# Altium schematic symbol library BraaiBuddyPCB_Schematic_Library.SCHLIB: 34 symbols
Pins are listed as number, name and electrical type; pins without a type are passive.

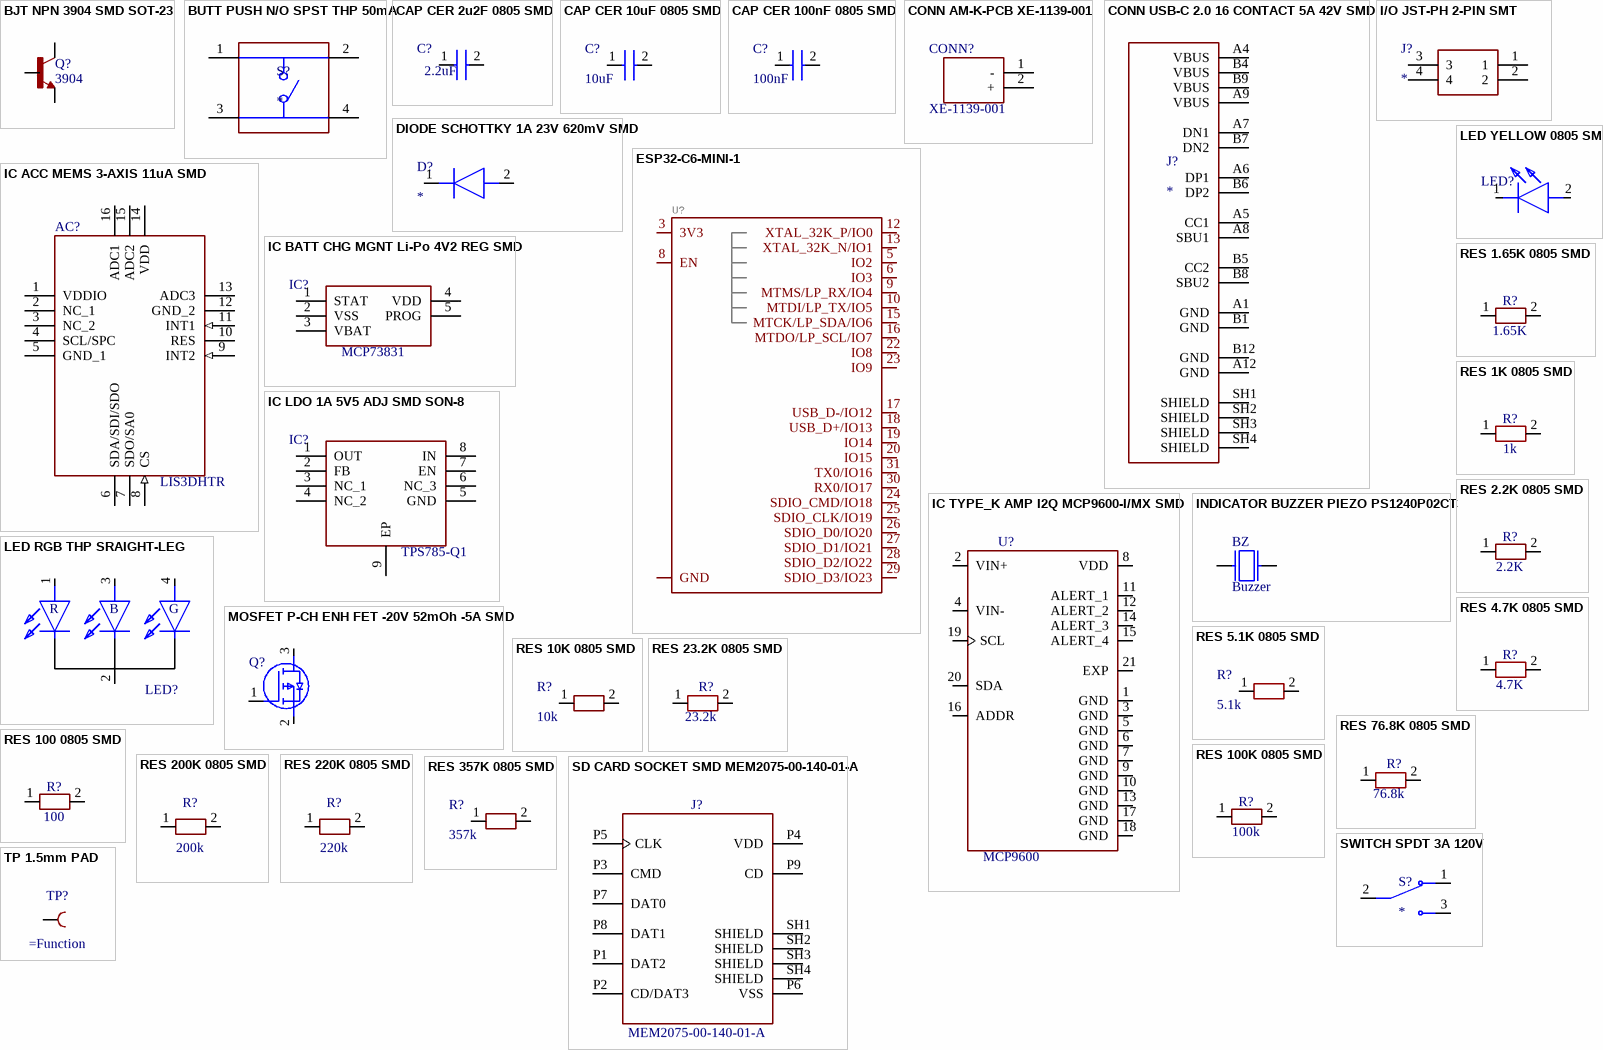
[diagram p0: symbols BJT NPN 3904 SMD SOT-23 to TP 1.5mm PAD]

## BJT NPN 3904 SMD SOT-23
designator Q?, comment 3904
NPN SMALL SIGNAL SURFACE MOUNT TRANSISTOR; Manufacturer_Part_Number: MMBT3904
footprint SOT95P230X110-3N (Footprint not found)
pins: B, C, E

## BUTT PUSH N/O SPST THP 50mA
designator S?
6 x 6 mm, 4.3 mm Actuator Height, 100 gf, Black, Long Crimped, Through Hole, SPST, Tactile Switch; Manufacturer_Part_Number: TS02-66-43-BK-100-LCR-D
footprint SW_TS02-66-43-BK-100-LCR-D
pins: 1, 2, 3, 4

## CAP CER 2u2F 0805 SMD
designator C?, comment 2.2uF
Capacitor; Manufacturer_Part_Number: LMK212BJ225MG-T
footprint CAPC2012X135N
pins: 1, 2

## CAP CER 10uF 0805 SMD
designator C?, comment 10uF
Capacitor; Manufacturer_Part_Number: CL21A106KOQNNNE; ComponentLink1Description: Datasheet; ComponentLink1URL: https://www.mouser.co.za/datasheet/2/585/MLCC-1837944.pdf
footprint CAPC2012X94N
pins: 1, 2

## CAP CER 100nF 0805 SMD
designator C?, comment 100nF
Capacitor; Manufacturer_Part_Number: 08055C104KAZ2A; ComponentLink1Description: Datasheet; ComponentLink1URL: http://datasheets.avx.com/X7RDielectric.pdf
footprint CAPC2012X94N
pins: 1, 2

## CONN AM-K-PCB XE-1139-001
designator CONN?, comment XE-1139-001
Thermocouple Type-K Connector; Manufacturer_Part_Number: XE-1139-001; Supplier: DigiKey; ComponentLink1Description: Datasheet; ComponentLink1URL: https://mm.digikey.com/Volume0/opasdata/d220001/medias/docus/6465/XE-1139-001.pdf
footprint AM-K PCB XE-1139-001
pins: 1 -, 2 +

## CONN USB-C 2.0 16 CONTACT 5A 42V SMD
designator J?
USB Connectors Type C,2.0, Horizontal, Gold plated 3u, Mid Surface Mount 1.0mm, 16 pin, T&R; Manufacturer_Part_Number: UJ20-C-H-G-SMT-TR; ComponentLink1Description: Datasheet; ComponentLink1URL: https://www.sameskydevices.com/product/resource/uj20-c-h-g-smt-tr.pdf
footprint CUI_UJ20-C-H-G-SMT-TR
pins: A1 GND (power), A4 VBUS, A5 CC1, A6 DP1, A7 DN1, A8 SBU1, A9 VBUS, A12 GND (power), B1 GND (power), B4 VBUS, B5 CC2, B6 DP2, B7 DN2, B8 SBU2, B9 VBUS, B12 GND (power), SH1 SHIELD, SH2 SHIELD, SH3 SHIELD, SH4 SHIELD

## DIODE SCHOTTKY 1A 23V 620mV SMD
designator D?
Diode; Manufacturer_Part_Number: BAT20JFILM; ComponentLink1Description: Datasheet; ComponentLink1URL: http://www.st.com/web/en/resource/technical/document/datasheet/CD00012201.pdf
footprint SOD2512X113N
pins: 1 K, 2 A

## ESP32-C6-MINI-1
designator U?
Manufacturer_Part_Number: ESP32-C6-MINI-1-H8; ComponentLink1Description: Datasheet; ComponentLink1URL: https://www.mouser.com/catalog/specsheets/Espressif_Systems_esp32-c6-mini-1_mini-1u_datasheet_en.pdf?_gl=1*7278yr*_gcl_aw*R0NMLjE3Mzk0MzM2MTQuQ2p3S0NBaUFxckc5QmhBVkVpd0FhUHU1emlsTWRuRXdaa2Fsd2VWNEN5MzNjMjVBX1BkRDhocTJZbnRtek0tckw4Q0pVVXJTcmNRbGdob0NCcXNRQXZEX0J3RQ..*_gcl_au*ODgyNzE3NTQxLjE3NDEwOTkzMzU.*_ga*MjEzMDEzNzc2Mi4xNzMzMzA0NDkw*_ga_15W4STQT4T*MTc0MTUxNTkxNS42MC4xLjE3NDE1MTgwNDEuMzcuMC4w
footprint ESP32C6MINI1H8
pins: 1 GND, 3 3V3, 5 IO2, 6 IO3, 8 EN, 9 MTMS/LP_RX/IO4, 10 MTDI/LP_TX/IO5, 12 XTAL_32K_P/IO0, 13 XTAL_32K_N/IO1, 15 MTCK/LP_SDA/IO6, 16 MTDO/LP_SCL/IO7, 17 USB_D-/IO12, 18 USB_D+/IO13, 19 IO14, 20 IO15, 22 IO8, 23 IO9, 24 SDIO_CMD/IO18, 25 SDIO_CLK/IO19, 26 SDIO_D0/IO20, 27 SDIO_D1/IO21, 28 SDIO_D2/IO22, 29 SDIO_D3/IO23, 30 RX0/IO17, 31 TX0/IO16

## I/O JST-PH 2-PIN SMT
designator J?
Connector; Manufacturer_Part_Number: 1769
footprint 1769
pins: 1, 2, 3, 4

## IC ACC MEMS 3-AXIS 11uA SMD
designator AC?, comment LIS3DHTR
Accelerometer; Manufacturer_Part_Number: LIS3DHTR; ComponentLink1Description: Datasheet; ComponentLink1URL: https://www.mouser.co.za/datasheet/2/389/lis3dh-1849589.pdf
footprint LIS3DHTR
pins: 1 VDDIO (power), 2 NC_1, 3 NC_2, 4 SCL/SPC, 5 GND_1 (power), 6 SDA/SDI/SDO, 7 SDO/SA0, 8 CS (in), 9 INT2 (in), 10 RES, 11 INT1 (in), 12 GND_2 (power), 13 ADC3, 14 VDD (power), 15 ADC2, 16 ADC1

## IC BATT CHG MGNT Li-Po 4V2 REG SMD
designator IC?, comment MCP73831
Integrated Circuit; Manufacturer_Part_Number: MCP73831T-2ACI/OT; ComponentLink1Description: Datasheet; ComponentLink1URL: http://ww1.microchip.com/downloads/en/DeviceDoc/20001984g.pdf
footprint SOT95P270X145-5N
pins: 1 STAT, 2 VSS, 3 VBAT, 4 VDD, 5 PROG

## IC LDO 1A 5V5 ADJ SMD SON-8
designator IC?, comment TPS785-Q1
LDO Voltage Regulators Automotive 1-A high -accuracy adjustable; Manufacturer_Part_Number: TPS78501QWDRBRQ1; ComponentLink1Description: Datasheet; ComponentLink1URL: https://www.ti.com/lit/gpn/TPS785-Q1
footprint SON65P300X300X100-9N-D
pins: 1 OUT, 2 FB, 3 NC_1, 4 NC_2, 5 GND, 6 NC_3, 7 EN, 8 IN, 9 EP

## IC TYPE_K AMP I2Q MCP9600-I/MX SMD
designator U?, comment MCP9600
MCP9600 Series Thermocouple Electromotive Force to Â±1.5Â°C Converter - VQFN-2; Manufacturer_Part_Number: MCP9600-E/MX; ComponentLink1Description: Datasheet; ComponentLink1URL: https://www.mouser.co.za/datasheet/2/268/MCP960X_L0X_RL0X_Thermocouple_EMF_to_Temperature_C-3443378.pdf
footprint QFN65P500X500X100-21N
pins: 1 GND, 2 VIN+, 3 GND, 4 VIN-, 5 GND, 6 GND, 7 GND, 8 VDD, 9 GND, 10 GND, 11 ALERT_1, 12 ALERT_2, 13 GND, 14 ALERT_3, 15 ALERT_4, 16 ADDR, 17 GND, 18 GND, 19 SCL, 20 SDA, 21 EXP

## INDICATOR BUZZER PIEZO PS1240P02CT3
designator BZ, comment Buzzer
Buzzers Transducer, Externally Driven Piezo 3V 4kHz 60dB @ 3V, 10cm Through Hole PC Pins; Manufacturer_Part_Number: PS1240P02CT3; ComponentLink1Description: Datasheet; ComponentLink1URL: https://product.tdk.com/system/files/dam/doc/product/sw_piezo/sw_piezo/piezo-buzzer/catalog/piezoelectronic_buzzer_ps_en.pdf
footprint 3XDCR_PS1240P02CT3
pins: 1, 2

## LED RGB THP SRAIGHT-LEG
designator LED?  (value not drawn)
RGB LED Dialight 521-8559F; Manufacturer_Part_Number: 521-8559F; ComponentLink1Description: Datasheet; ComponentLink1URL: https://www.mouser.co.za/datasheet/2/109/C18455B-1843429.pdf
footprint LED THP Dialight 521-8559F
pins: 1 K, 2 5, 3 K, 4 K
text: R; B; G

## LED YELLOW 0805 SMD
designator LED?  (value not drawn)
Single Colour LED Yellow 20mA; Manufacturer_Part_Number: LY M676-Q2S1-26-Z; ComponentLink1Description: Datasheet; ComponentLink1URL: https://www.mouser.com/datasheet/2/588/Osram_7222021_LY__M676_EN-2891431.pdf
footprint LYM676Q2S126Z
pins: 1 K, 2 A

## MOSFET P-CH ENH FET -20V 52mOh -5A SMD
designator Q?  (value not drawn)
MOSFET (P-Channel); Manufacturer_Part_Number: DMG2305UX-7; ComponentLink1Description: Datasheet; ComponentLink1URL: https://www.diodes.com/assets/Datasheets/DMG2305UX.pdf
footprint SOT96P240X115-3N
pins: 1 G, 2 S, 3 D

## RES 1.65K 0805 SMD
designator R?, comment 1.65K
Resistor; Manufacturer_Part_Number: CRCW08051K65FKEAHP
footprint RESC2012X60N
pins: 1, 2

## RES 1K 0805 SMD
designator R?, comment 1k
Resistor; Manufacturer_Part_Number: RC0805JR-071KL
footprint RESC2012X60N
pins: 1, 2

## RES 2.2K 0805 SMD
designator R?, comment 2.2K
Resistor; Manufacturer_Part_Number: ERJ-PB6B2201V
footprint RESC2012X70N
pins: 1, 2

## RES 4.7K 0805 SMD
designator R?, comment 4.7K
Resistor; Manufacturer_Part_Number: CRCW08054K70FKEA
footprint RESC2012X50N
pins: 1, 2

## RES 5.1K 0805 SMD
designator R?, comment 5.1k
Resistor; Manufacturer_Part_Number: RC0805JR-075K1L; ComponentLink1Description: Datasheet; ComponentLink1URL: https://industrial.panasonic.com/cdbs/www-data/pdf/RDA0000/AOA0000C84.pdf
footprint RESC2012X60N
pins: 1, 2

## RES 10K 0805 SMD
designator R?, comment 10k
Resistor; Manufacturer_Part_Number: CR0805-FX-1002ELF
footprint RESC2012X60N
pins: 1, 2

## RES 23.2K 0805 SMD
designator R?, comment 23.2k
Resistor; Manufacturer_Part_Number: RC0805FR-0723K2L; ComponentLink1Description: Datasheet; ComponentLink1URL: https://industrial.panasonic.com/cdbs/www-data/pdf/RDA0000/AOA0000C84.pdf
footprint RESC2012X60N
pins: 1, 2

## RES 76.8K 0805 SMD
designator R?, comment 76.8k
Resistor; Manufacturer_Part_Number: RC0805FR-0776K8L; ComponentLink1Description: Datasheet; ComponentLink1URL: https://industrial.panasonic.com/cdbs/www-data/pdf/RDA0000/AOA0000C84.pdf
footprint RESC2012X60N
pins: 1, 2

## RES 100 0805 SMD
designator R?, comment 100
Resistor; Manufacturer_Part_Number: 1623096-1
footprint RESC2012X60N
pins: 1, 2

## RES 100K 0805 SMD
designator R?, comment 100k
Resistor; Manufacturer_Part_Number: CRCW0805100KJNECC
footprint RESC2012X50N
pins: 1, 2

## RES 200K 0805 SMD
designator R?, comment 200k
Resistor; Manufacturer_Part_Number: SG73P2ATTD2003F
footprint RESC2012X60N
pins: 1, 2

## RES 220K 0805 SMD
designator R?, comment 220k
Resistor; Manufacturer_Part_Number: CR0805-FX-2203ELF
footprint RESC2012X60N
pins: 1, 2

## RES 357K 0805 SMD
designator R?, comment 357k
Resistor; Manufacturer_Part_Number: ERJ-6ENF3573V; ComponentLink1Description: Datasheet; ComponentLink1URL: https://industrial.panasonic.com/cdbs/www-data/pdf/RDA0000/AOA0000C84.pdf
footprint ERJ6ENF1000V
pins: 1, 2

## SD CARD SOCKET SMD MEM2075-00-140-01-A
designator J?, comment MEM2075-00-140-01-A
9 (8 + 1) Position Card Connector microSD Surface Mount, Right Angle Gold; Manufacturer_Part_Number: MEM2075-00-140-01-A; ComponentLink1Description: Datasheet; ComponentLink1URL: https://www.mouser.co.za/datasheet/2/837/MEM2075-2887971.pdf
footprint GCT_MEM2075-00-140-01-A
pins: P1 DAT2, P2 CD/DAT3, P3 CMD, P4 VDD, P5 CLK, P6 VSS, P7 DAT0, P8 DAT1, P9 CD, SH1 SHIELD, SH2 SHIELD, SH3 SHIELD, SH4 SHIELD

## SWITCH SPDT 3A 120V
designator S?
Manufacturer_Part_Number: 500ASSP1M6QE
footprint SW_500ASSP1M6QE
pins: 1 NC, 2 COM, 3 NO

## TP 1.5mm PAD
designator TP?  (no BOM)
TP 1.5mm PAD
footprint TP_Pad_TH_1.2P_0.6H
pins: TP